# Altium schematic symbol library GRM188R71C224KA01D.SchLib: 2 symbols
Pins are listed as number, name and electrical type; pins without a type are passive.

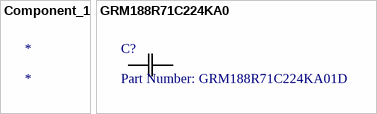
[diagram p0: symbols Component_1 to GRM188R71C224KA0]

## Component_1
designator *

## GRM188R71C224KA0
designator C?, comment Part Number: GRM188R71C224KA01D
No Description Available; Vendor: Murata; Type: DEV; Copyright: Copyright (C) 2015 Accelerated Designs. All rights reserved; Manufacturer_Part_Number: GRM188R71C224KA01D; RefDes: RefDes; Value: Value
footprint G-188
pins: 1, 2